# Altium integrated library 4P 3.81.IntLib: 1 symbol
Pins are listed as number, name and electrical type; pins without a type are passive.

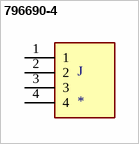
[diagram p0: symbol 796690-4]

## 796690-4
designator J
TERMI-BLOK PCB MOUNT 4P; Centerline_Pitch: 5 mm[.197 in]; Number_of_Positions: 4; MP: 796690-4; MF: TE Connectivity; SnapEDA_Link: https://www.snapeda.com/parts/796690-4/TE%20Connectivity/view-part/533474/?ref=snap; Availability: Unavailable; Price: None; TE_purchase_URL: https://www.te.com/usa-en/product-796690-4.html?te_bu=Cor&te_type=disp&te_campaign=seda_glo_cor-seda-global-disp-prtnr-fy19-seda-model-bom-cta_sma-317_1&elqCampaignId=32493; Value: *; EU_RoHS_Compliance: Compliant with Exemptions; Package: None
footprint TE_796690-4
pins: 1, 2, 3, 4